# EAGLE library part MET-32 (library LW_DUB)
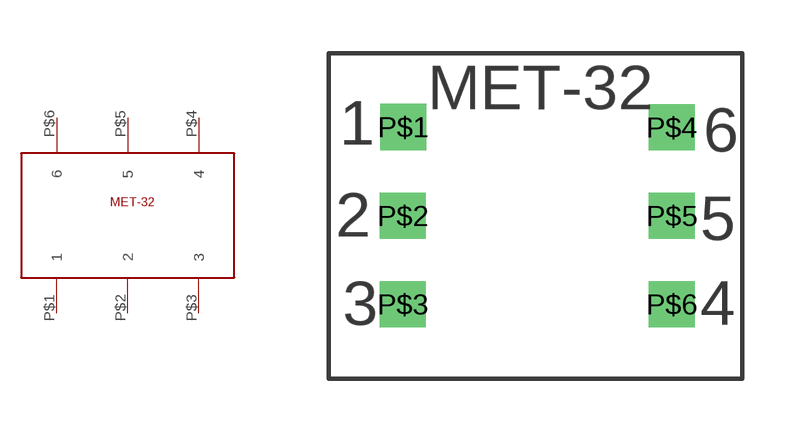
[diagram p8: symbol with the pads of MET-32; footprint MET-32]

Designator prefix -

## MET-32  [MET-32]
P$1  1
P$2  2
P$3  3
P$4  4
P$5  5
P$6  6

## Footprint MET-32 (pad centres in mm)
drill 0.8 square: P$1 -8.89,3.81; P$2 -8.9,1.3; P$3 -8.9,-1.2; P$4 -1.3,3.8; P$5 -1.3,1.3; P$6 -1.3,-1.2